# Altium footprint library SOP127P600-8N_Header_10PIN_Harwin.PcbLib: 1 footprints
Each footprint in its own frame and in the unit in brackets; x right, y up, seen from the top. Pads: shape width x height; smd on the part's side, far side on the other; paste and mask are expansions set on the pad; w line width, h text height; cw(c..) or ccw(c..) is an arc to the next point about the centre after c.
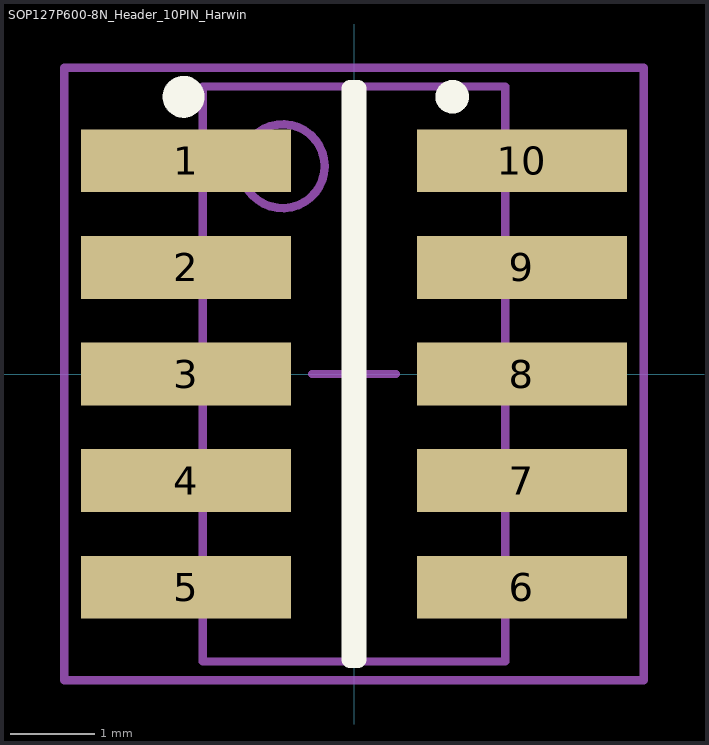
[diagram p0: the footprint, top view; thin cyan lines are the x and y axes]

## SOP127P600-8N_Header_10PIN_Harwin [mm] "SOP127P600-8N_Header_10PIN_Harwin"
height 4.88
pads (10):
  rect 2.5x0.75 smd: 1(-2,2.54) 2(-2,1.27) 3(-2,0) 4(-2,-1.27) 5(-2,-2.54) 6(2,-2.54) 7(2,-1.27) 8(2,0) 9(2,1.27) 10(2,2.54)
Top Overlay:
  circle w0.2: c1.17,3.302 r0.1
  circle w0.25: c-2.03,3.302 r0.125
  lines w0.2: -0.05,-3.4 0.05,-3.4 0.05,3.4 -0.05,3.4 -0.05,-3.4
Mechanical 13:
  circle w0.1: c-0.85,2.475 r0.5
  lines w0.1: -1.8,-3.425 1.8,-3.425 1.8,3.425 -1.8,3.425 -1.8,-3.425
Mechanical 15:
  lines w0.1: -0.5,0 0.5,0 ; 0,-0.5 0,0.5 ; -3.45,-3.65 3.45,-3.65 3.45,3.65 -3.45,3.65 -3.45,-3.65
3D body: height 4.88, standoff 0.4, extent -1.8,-3.425 1.8,3.425